# Altium footprint library DIO10.36-5.2x2.8.PcbLib: 1 footprints
Each footprint in its own frame and in the unit in brackets; x right, y up, seen from the top. Pads: shape width x height; smd on the part's side, far side on the other; paste and mask are expansions set on the pad; w line width, h text height; cw(c..) or ccw(c..) is an arc to the next point about the centre after c.
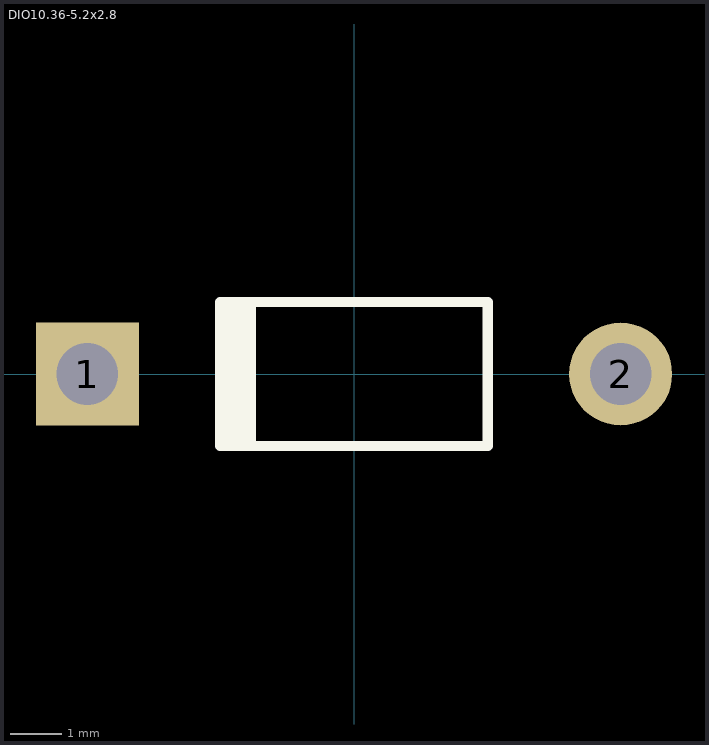
[diagram p0: the footprint, top view; thin cyan lines are the x and y axes]

## DIO10.36-5.2x2.8 [mm] "Diode, Axial; Body 5.2 x 2.7 mm (LxDia. max), Lead Dia. 0.86 mm (max)"
height 2.8
pads (2):
  rect 2x2 hole 1.2: 1(-5.18,0)
  round 2 hole 1.2: 2(5.18,0)
Top Overlay:
  region: -1.9,1.4 -2.7,1.4 -2.7,-1.4 -1.9,-1.4
  lines w0.2: -2.6,-1.4 2.6,-1.4 2.6,1.4 -2.6,1.4
3D body: height 4.36, standoff -1, extent -5.43,-1.325 5.43,1.4